# Altium schematic symbol library AC220_to_48V.SchLib: 9 symbols
Pins are listed as number, name and electrical type; pins without a type are passive.

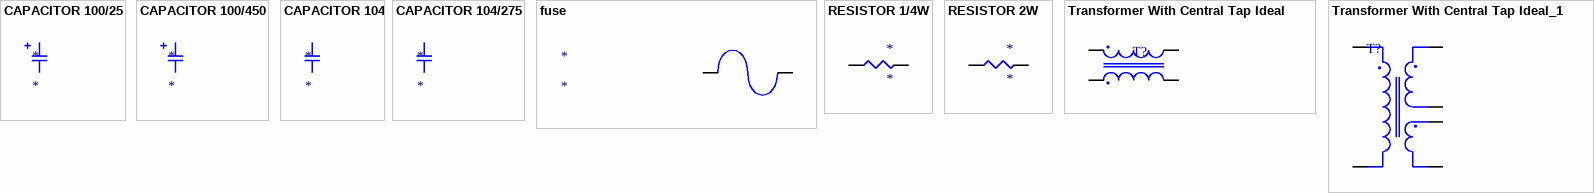
[diagram p0: symbols CAPACITOR 100/25 to Transformer With Central Tap Ideal_1]

## CAPACITOR 100/25
designator *
footprint C2.5-2
pins: 1, 2

## CAPACITOR 100/450
designator *
footprint C5B2.5
pins: 1, 2

## CAPACITOR 104
designator *
footprint C-1
pins: 1, 2

## CAPACITOR 104/275
designator *
footprint C-15
pins: 1, 2

## fuse
designator *
footprint SHK20L
pins: 1A, 1B, 2A, 2B

## RESISTOR 1/4W
designator *
footprint Model Name (Model Description)
footprint Model Name (Model Description)
footprint R7-5
pins: 1, 2

## RESISTOR 2W
designator *
footprint R-12,5
pins: 1, 2

## Transformer With Central Tap Ideal
designator T?, comment common mode choke  (value not drawn)
SimulationGenericComponent: True
footprint DFKH14
pins: 1, 2, 3, 4

## Transformer With Central Tap Ideal_1
designator T?, comment Ideal Transformer With Central Tap  (value not drawn)
SimulationGenericComponent: True
simulation model IDEAL_CENTAP
footprint ST-D1
pins: 1, 2, 5, 6, 7, 8, 9, 12